# Altium integrated library 1054500101.IntLib: 1 symbol
Pins are listed as number, name and electrical type; pins without a type are passive.

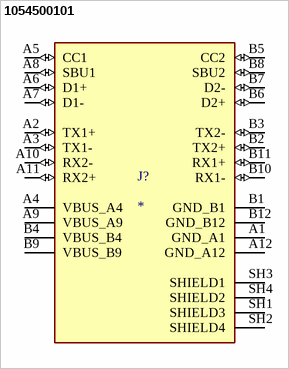
[diagram p0: symbol 1054500101]

## 1054500101
designator J?
USB-C (USB TYPE-C) USB 3.2 Gen 2 (USB 3.1 Gen 2, Superspeed + (USB 3.1)) Receptacle Connector 24 Position Surface Mount, Right Angle; Through Hole; MF: Molex; MP: 1054500101; SnapEDA_Link: https://www.snapeda.com/parts/1054500101/Molex/view-part/?ref=snap; Package: None; Value: *; Check_prices: https://www.snapeda.com/parts/1054500101/Molex/view-part/?ref=eda
footprint MOLEX_1054500101
pins: A1 GND_A1 (power), A2 TX1+ (io), A3 TX1- (io), A4 VBUS_A4 (power), A5 CC1 (io), A6 D1+ (io), A7 D1- (io), A8 SBU1 (io), A9 VBUS_A9 (power), A10 RX2- (io), A11 RX2+ (io), A12 GND_A12 (power), B1 GND_B1 (power), B2 TX2+ (io), B3 TX2- (io), B4 VBUS_B4 (power), B5 CC2 (io), B6 D2+ (io), B7 D2- (io), B8 SBU2 (io), B9 VBUS_B9 (power), B10 RX1- (io), B11 RX1+ (io), B12 GND_B12 (power), SH1 SHIELD3, SH2 SHIELD4, SH3 SHIELD1, SH4 SHIELD2